# EAGLE library part 693023010811 (library 632723100011_Eagle_WR-USB_rev19b)
WR-CRD_Micro SIM_Push & Pull_w Card Detection_SMT Micro SIM Push & Pull Type SMT - with Card Detection - 1.27mm Height Code:Con_I-O_COM_CRD_SIM_Micro_693023010811_693023010811 <http://katalog.we-online.de/media/images/v2/Family_WR-CRD_Micro_SIM_Push_8Pins_693021010811.jpg> Details see: http://katalog.we-online.de/en/em/CRD_MICRO_SIM_PUSH_AND_PULL_CRD_DETECTION_8_PINS/693023010811 Created 2014-12-22, aslant tao 2014 (C) Würth Elektronik
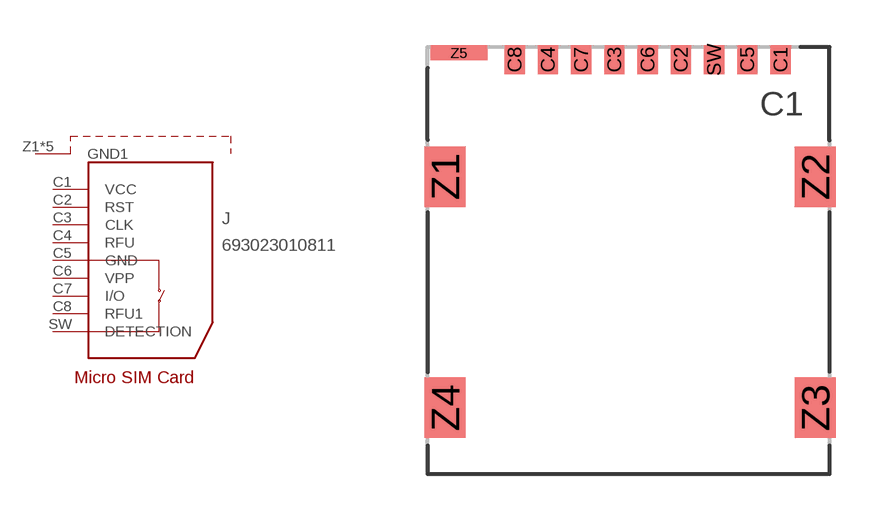
[diagram p141: symbol with the pads of 693023010811; footprint 693023010811]

Designator prefix J

## 693023010811  [693023010811]
C1  VCC
C2  RST
C3  CLK
C4  RFU
C5  GND
C6  VPP
C7  I/O
C8  RFU1
SW  DETECTION
Z1  GND1
Z2  GND1
Z3  GND1
Z4  GND1
Z5  GND1

## Footprint 693023010811 (pad centres in mm)
smd 0.67 x 0.95: C1 5.03,0; C2 1.73,0; C3 -0.47,0; C4 -2.67,0; C5 3.93,0; C6 0.63,0; C7 -1.57,0; C8 -3.77,0; SW 2.83,0
smd 1.35 x 2: Z1 -6.075,-3.875; Z2 6.175,-3.875; Z3 6.175,-11.525; Z4 -6.075,-11.525
smd 1.88 x 0.5: Z5 -5.61,0.225